# Altium integrated library National Semiconductor Audio.IntLib: 683 symbols (part 15 of 18)
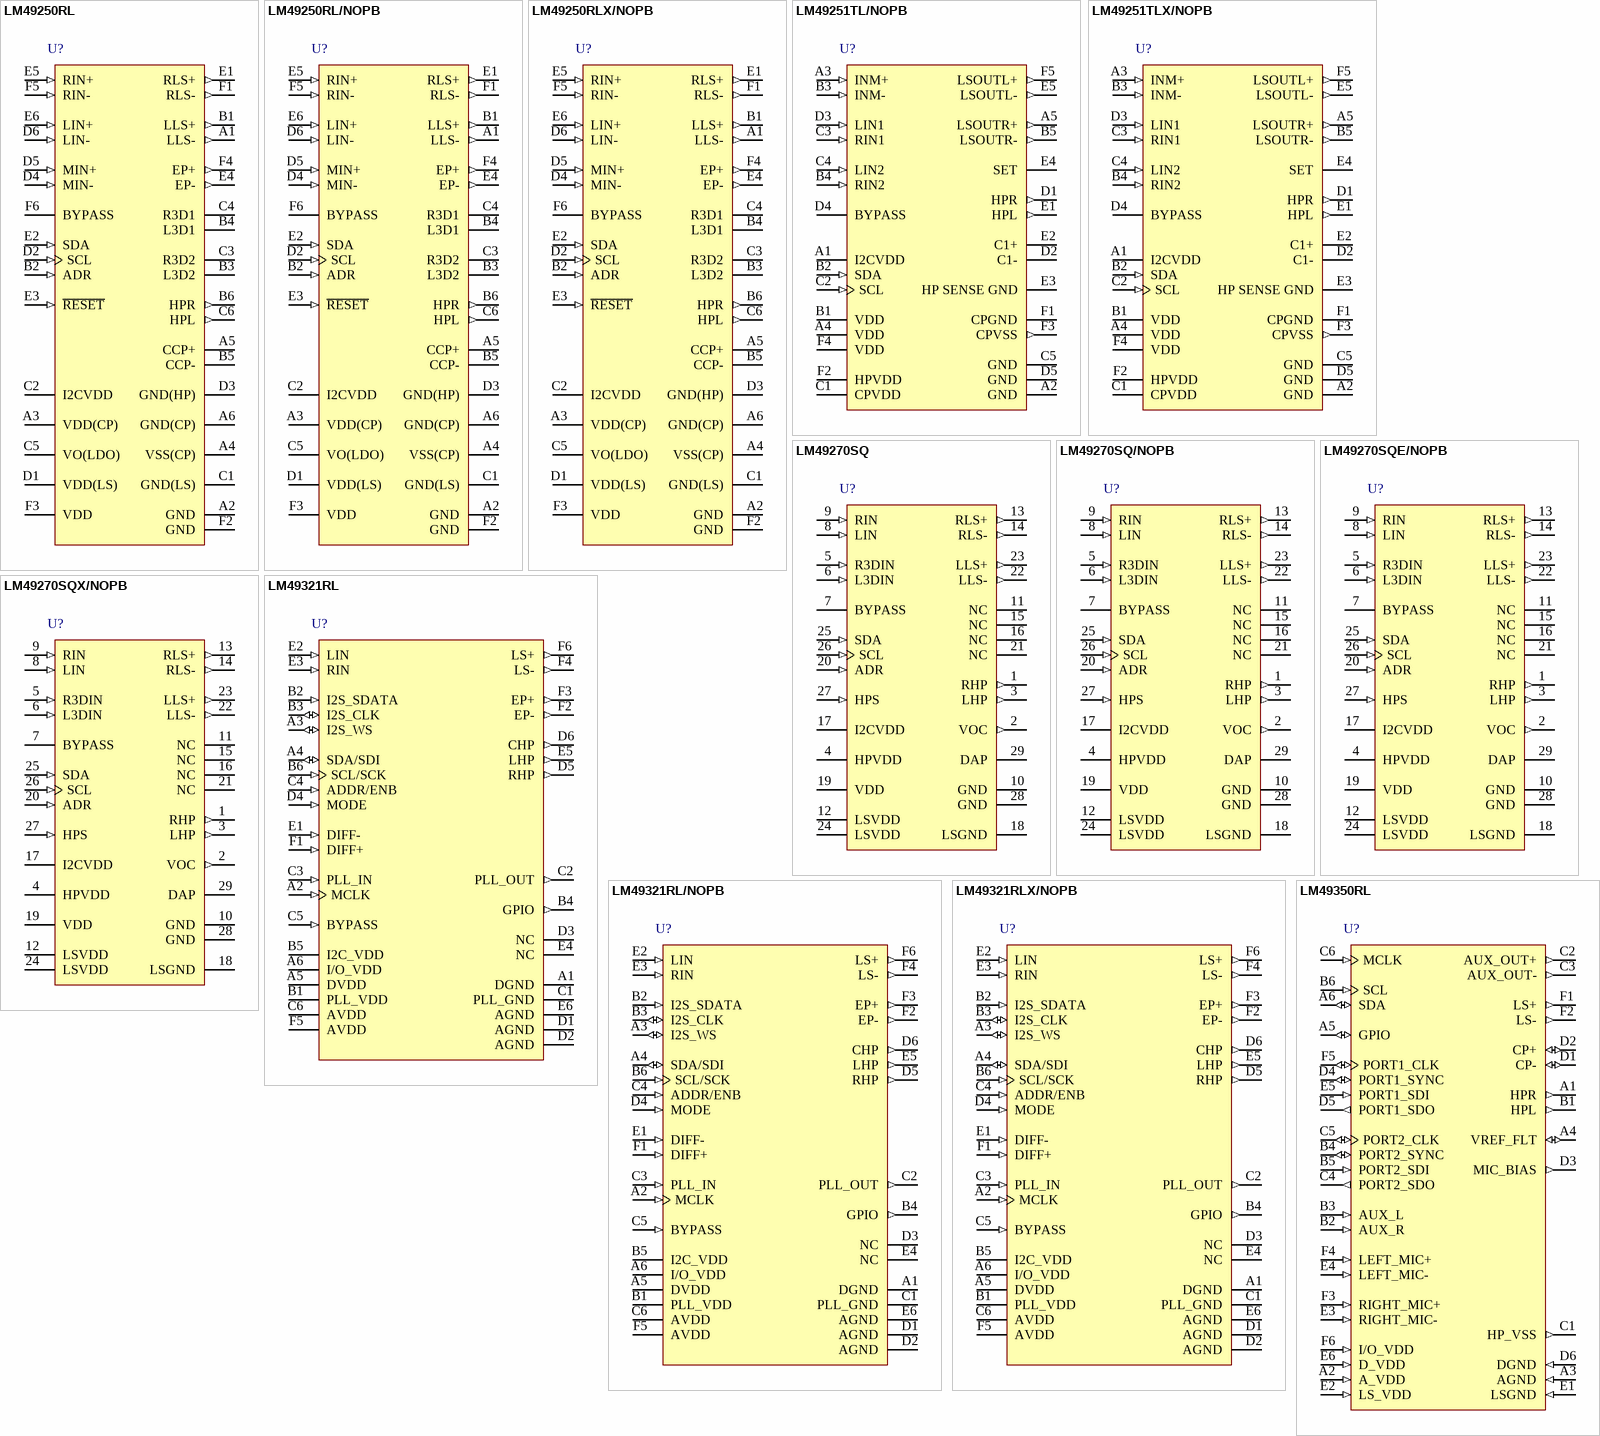
[diagram p40: symbols LM49250RL to LM49350RL]

## LM49251TL/NOPB
designator U?
Stereo Audio Subsystem with Class G Headphone Amplifier and Class D Speaker  Amplifier with Speaker Protection, 30-pin Micro SMD; PartNumber: LM49251TL/NOPB; Manufacturer: National Semiconductor; PackageTopMarking: XYTT*I GN9; PowerWise: Y; CompType: Audio IC; DatasheetVersion: Feb-2011; PackageVersion: revC, Dec-2003; PackageReference: TLA30B1A; PackageDescription: Thin Micro SMD, 30 Bump (Large), 0.5mm Pitch; RoHS: Y; PinCount: 30; High-Reliability: Y; Code_JEDEC: MO-211-DJ; ComponentLink1Description: Manufacturer URL; ComponentLink1URL: http://www.national.com/; ComponentLink2Description: LM49251 Datasheet; ComponentLink2URL: http://www.national.com/ds/LM/LM49251.pdf; ComponentLink3Description: LM49251 Web Page; ComponentLink3URL: http://www.national.com/pf/LM/LM49251.html; ComponentLink4Description: TLA30B1A Package Page; ComponentLink4URL: http://www.national.com/packaging/folders/tla30b1a.html
footprint TLA30B1A (Micro SMD, 30-Leads, Body 2.97x2.52mm, Pitch 0.5mm, NSC Recommended)
pins: A1 I2CVDD (power) "I2C Power Supply", A2 GND (power) "Ground", A3 INM+ (in) "Mono Channel Non-Inverting Input", A4 VDD (power) "Loudspeaker Power Supply", A5 LSOUTR+ (out) "Right Loudspeaker Non-Inverting Output", B1 VDD (power) "Loudspeaker Power Supply", B2 SDA (in) "I2C Serial Data Input", B3 INM- (in) "Mono Channel Inverting Input", B4 RIN2 (in) "Right Channel Input 2", B5 LSOUTR- (out) "Right Loudspeaker Inverting Output", C1 CPVDD (power) "Charge Pump Supply (internally generated)", C2 SCL (in) "I2C Serial Clock Input", C3 RIN1 (in) "Right Channel Input 1", C4 LIN2 (in) "Left Channel Input 2", C5 GND (power) "Ground", D1 HPR (out) "Right Channel Headphone Output", D2 C1- "Charge Pump Flying Capacitor Negative Terminal", D3 LIN1 (in) "Left Channel Input 1", D4 BYPASS "Mid-Rail Bias Bypass Node", D5 GND (power) "Ground", E1 HPL (out) "Left Channel Headphone Output", E2 C1+ "Charge Pump Flying Capacitor Positive Terminal", E3 HP SENSE GND (power) "Headphone Ground Sense", E4 SET "ALC Timing Set", E5 LSOUTL- (out) "Left Loudspeaker Inverting Output", F1 CPGND (power) "Charge Pump Ground", F2 HPVDD (power) "Headphone Power Supply", F3 CPVSS (out) "Charge Pump Output", F4 VDD (power) "Loudspeaker Power Supply", F5 LSOUTL+ (out) "Left Loudspeaker Non-Inverting Output"

## LM49251TLX/NOPB
designator U?
Stereo Audio Subsystem with Class G Headphone Amplifier and Class D Speaker  Amplifier with Speaker Protection, 30-pin Micro SMD; PartNumber: LM49251TLX/NOPB; Manufacturer: National Semiconductor; PackageTopMarking: XYTT*I GN9; PowerWise: Y; CompType: Audio IC; DatasheetVersion: Feb-2011; PackageVersion: revC, Dec-2003; PackageReference: TLA30B1A; PackageDescription: Thin Micro SMD, 30 Bump (Large), 0.5mm Pitch; RoHS: Y; PinCount: 30; High-Reliability: Y; Code_JEDEC: MO-211-DJ; ComponentLink1Description: Manufacturer URL; ComponentLink1URL: http://www.national.com/; ComponentLink2Description: LM49251 Datasheet; ComponentLink2URL: http://www.national.com/ds/LM/LM49251.pdf; ComponentLink3Description: LM49251 Web Page; ComponentLink3URL: http://www.national.com/pf/LM/LM49251.html; ComponentLink4Description: TLA30B1A Package Page; ComponentLink4URL: http://www.national.com/packaging/folders/tla30b1a.html
footprint TLA30B1A (Micro SMD, 30-Leads, Body 2.97x2.52mm, Pitch 0.5mm, NSC Recommended)
pins: A1 I2CVDD (power) "I2C Power Supply", A2 GND (power) "Ground", A3 INM+ (in) "Mono Channel Non-Inverting Input", A4 VDD (power) "Loudspeaker Power Supply", A5 LSOUTR+ (out) "Right Loudspeaker Non-Inverting Output", B1 VDD (power) "Loudspeaker Power Supply", B2 SDA (in) "I2C Serial Data Input", B3 INM- (in) "Mono Channel Inverting Input", B4 RIN2 (in) "Right Channel Input 2", B5 LSOUTR- (out) "Right Loudspeaker Inverting Output", C1 CPVDD (power) "Charge Pump Supply (internally generated)", C2 SCL (in) "I2C Serial Clock Input", C3 RIN1 (in) "Right Channel Input 1", C4 LIN2 (in) "Left Channel Input 2", C5 GND (power) "Ground", D1 HPR (out) "Right Channel Headphone Output", D2 C1- "Charge Pump Flying Capacitor Negative Terminal", D3 LIN1 (in) "Left Channel Input 1", D4 BYPASS "Mid-Rail Bias Bypass Node", D5 GND (power) "Ground", E1 HPL (out) "Left Channel Headphone Output", E2 C1+ "Charge Pump Flying Capacitor Positive Terminal", E3 HP SENSE GND (power) "Headphone Ground Sense", E4 SET "ALC Timing Set", E5 LSOUTL- (out) "Left Loudspeaker Inverting Output", F1 CPGND (power) "Charge Pump Ground", F2 HPVDD (power) "Headphone Power Supply", F3 CPVSS (out) "Charge Pump Output", F4 VDD (power) "Loudspeaker Power Supply", F5 LSOUTL+ (out) "Left Loudspeaker Non-Inverting Output"

## LM49270SQ
designator U?
Filterless 2.2W Class D Audio Subsystem with OCL Headphone Amplifier, 3D Enhancement, and Headphone Sense, 28-pin LLP; PartNumber: LM49270SQ; Manufacturer: National Semiconductor; PackageTopMarking: NS*UZXYTT*49270SQ; PowerWise: N; CompType: Audio IC; High-Reliability: Y; DatasheetVersion: Dec-2006; PackageVersion: revB, Aug-2003; PackageReference: SQA28A; PackageDescription: LLP, Plastic, Quad, 5 x 5 x 0.8mm Body, 28 Lead, 0.5mm Pitch, No Pullback; RoHS: Y; PinCount: 28; Code_JEDEC: MO-220-WHHD-3; ComponentLink1Description: Manufacturer URL; ComponentLink1URL: http://www.national.com/; ComponentLink2Description: LM49270 Datasheet; ComponentLink2URL: http://www.national.com/ds/LM/LM49270.pdf; ComponentLink3Description: LM49270 Web Page; ComponentLink3URL: http://www.national.com/pf/LM/LM49270.html; ComponentLink4Description: SQA28A Package Page; ComponentLink4URL: http://www.national.com/packaging/folders/sqa28a.html
footprint SQA28A (QFN, 29-Leads, Body 5x5mm, Pitch 0.5mm, NSC Recommended)
pins: 1 RHP (out), 2 VOC (out), 3 LHP (out), 4 HPVDD (power), 5 R3DIN (in), 6 L3DIN (in), 7 BYPASS, 8 LIN (in), 9 RIN (in), 10 GND (power), 11 NC, 12 LSVDD (power), 13 RLS+ (out), 14 RLS- (out), 15 NC, 16 NC, 17 I2CVDD (power), 18 LSGND (power), 19 VDD (power), 20 ADR (in), 21 NC, 22 LLS- (out), 23 LLS+ (out), 24 LSVDD (power), 25 SDA (in), 26 SCL (in), 27 HPS (in), 28 GND (power), 29 DAP (power)

## LM49270SQ/NOPB
designator U?
Filterless 2.2W Class D Audio Subsystem with OCL Headphone Amplifier, 3D Enhancement, and Headphone Sense, 28-pin LLP, Pb-Free; PartNumber: LM49270SQ/NOPB; Manufacturer: National Semiconductor; PackageTopMarking: NS*UZXYTT*49270SQ; PowerWise: N; CompType: Audio IC; High-Reliability: Y; DatasheetVersion: Dec-2006; PackageVersion: revB, Aug-2003; PackageReference: SQA28A; PackageDescription: LLP, Plastic, Quad, 5 x 5 x 0.8mm Body, 28 Lead, 0.5mm Pitch, No Pullback; RoHS: Y; PinCount: 28; Code_JEDEC: MO-220-WHHD-3; ComponentLink1Description: Manufacturer URL; ComponentLink1URL: http://www.national.com/; ComponentLink2Description: LM49270 Datasheet; ComponentLink2URL: http://www.national.com/ds/LM/LM49270.pdf; ComponentLink3Description: LM49270 Web Page; ComponentLink3URL: http://www.national.com/pf/LM/LM49270.html; ComponentLink4Description: SQA28A Package Page; ComponentLink4URL: http://www.national.com/packaging/folders/sqa28a.html
footprint SQA28A (QFN, 29-Leads, Body 5x5mm, Pitch 0.5mm, NSC Recommended)
pins: 1 RHP (out), 2 VOC (out), 3 LHP (out), 4 HPVDD (power), 5 R3DIN (in), 6 L3DIN (in), 7 BYPASS, 8 LIN (in), 9 RIN (in), 10 GND (power), 11 NC, 12 LSVDD (power), 13 RLS+ (out), 14 RLS- (out), 15 NC, 16 NC, 17 I2CVDD (power), 18 LSGND (power), 19 VDD (power), 20 ADR (in), 21 NC, 22 LLS- (out), 23 LLS+ (out), 24 LSVDD (power), 25 SDA (in), 26 SCL (in), 27 HPS (in), 28 GND (power), 29 DAP (power)

## LM49270SQE/NOPB
designator U?
Filterless 2.2W Class D Audio Subsystem with OCL Headphone Amplifier, 3D Enhancement, and Headphone Sense, 28-pin LLP, Pb-Free; PartNumber: LM49270SQE/NOPB; Manufacturer: National Semiconductor; PackageTopMarking: NS*UZXYTT*49270SQ; PowerWise: N; CompType: Audio IC; High-Reliability: Y; DatasheetVersion: Dec-2006; PackageVersion: revB, Aug-2003; PackageReference: SQA28A; PackageDescription: LLP, Plastic, Quad, 5 x 5 x 0.8mm Body, 28 Lead, 0.5mm Pitch, No Pullback; RoHS: Y; PinCount: 28; Code_JEDEC: MO-220-WHHD-3; ComponentLink1Description: Manufacturer URL; ComponentLink1URL: http://www.national.com/; ComponentLink2Description: LM49270 Datasheet; ComponentLink2URL: http://www.national.com/ds/LM/LM49270.pdf; ComponentLink3Description: LM49270 Web Page; ComponentLink3URL: http://www.national.com/pf/LM/LM49270.html; ComponentLink4Description: SQA28A Package Page; ComponentLink4URL: http://www.national.com/packaging/folders/sqa28a.html
footprint SQA28A (QFN, 29-Leads, Body 5x5mm, Pitch 0.5mm, NSC Recommended)
pins: 1 RHP (out), 2 VOC (out), 3 LHP (out), 4 HPVDD (power), 5 R3DIN (in), 6 L3DIN (in), 7 BYPASS, 8 LIN (in), 9 RIN (in), 10 GND (power), 11 NC, 12 LSVDD (power), 13 RLS+ (out), 14 RLS- (out), 15 NC, 16 NC, 17 I2CVDD (power), 18 LSGND (power), 19 VDD (power), 20 ADR (in), 21 NC, 22 LLS- (out), 23 LLS+ (out), 24 LSVDD (power), 25 SDA (in), 26 SCL (in), 27 HPS (in), 28 GND (power), 29 DAP (power)

## LM49270SQX/NOPB
designator U?
Filterless 2.2W Class D Audio Subsystem with OCL Headphone Amplifier, 3D Enhancement, and Headphone Sense, 28-pin LLP, Pb-Free; PartNumber: LM49270SQX/NOPB; Manufacturer: National Semiconductor; PackageTopMarking: NS*UZXYTT*49270SQ; PowerWise: N; CompType: Audio IC; High-Reliability: Y; DatasheetVersion: Dec-2006; PackageVersion: revB, Aug-2003; PackageReference: SQA28A; PackageDescription: LLP, Plastic, Quad, 5 x 5 x 0.8mm Body, 28 Lead, 0.5mm Pitch, No Pullback; RoHS: Y; PinCount: 28; Code_JEDEC: MO-220-WHHD-3; ComponentLink1Description: Manufacturer URL; ComponentLink1URL: http://www.national.com/; ComponentLink2Description: LM49270 Datasheet; ComponentLink2URL: http://www.national.com/ds/LM/LM49270.pdf; ComponentLink3Description: LM49270 Web Page; ComponentLink3URL: http://www.national.com/pf/LM/LM49270.html; ComponentLink4Description: SQA28A Package Page; ComponentLink4URL: http://www.national.com/packaging/folders/sqa28a.html
footprint SQA28A (QFN, 29-Leads, Body 5x5mm, Pitch 0.5mm, NSC Recommended)
pins: 1 RHP (out), 2 VOC (out), 3 LHP (out), 4 HPVDD (power), 5 R3DIN (in), 6 L3DIN (in), 7 BYPASS, 8 LIN (in), 9 RIN (in), 10 GND (power), 11 NC, 12 LSVDD (power), 13 RLS+ (out), 14 RLS- (out), 15 NC, 16 NC, 17 I2CVDD (power), 18 LSGND (power), 19 VDD (power), 20 ADR (in), 21 NC, 22 LLS- (out), 23 LLS+ (out), 24 LSVDD (power), 25 SDA (in), 26 SCL (in), 27 HPS (in), 28 GND (power), 29 DAP (power)

## LM49321RL
designator U?
Audio Sub-System with Stereo DAC, Mono Class AB Loudspeaker Amplifier, OCL/SE Stereo Headphone Output and RF Suppression, 36-pin Micro SMDXT; PartNumber: LM49321RL; Manufacturer: National Semiconductor; PackageTopMarking: XYTT*I GK9; PowerWise: N; CompType: Audio IC; High-Reliability: Y; DatasheetVersion: Aug-2009; PackageVersion: revA, 2007; PackageReference: RLA36LVA; PackageDescription: Micro SMDxt, 36 Bump (Large), 0.5mm Pitch; RoHS: Y; PinCount: 36; ComponentLink1Description: Manufacturer URL; ComponentLink1URL: http://www.national.com/; ComponentLink2Description: LM49321 Datasheet; ComponentLink2URL: http://www.national.com/ds/LM/LM49321.pdf; ComponentLink3Description: LM49321 Web Page; ComponentLink3URL: http://www.national.com/pf/LM/LM49321.html
footprint RLA36LVA (Micro SMD, 36-Leads, Body 3.51x3.26mm, Pitch 0.5mm, NSC Recommended)
pins: A1 DGND (power), A2 MCLK (in), A3 I2S_WS (io), A4 SDA/SDI (io), A5 DVDD (power), A6 I/O_VDD (power), B1 PLL_VDD (power), B2 I2S_SDATA (in), B3 I2S_CLK (io), B4 GPIO (out), B5 I2C_VDD (power), B6 SCL/SCK (in), C1 PLL_GND (power), C2 PLL_OUT (out), C3 PLL_IN (in), C4 ADDR/ENB (in), C5 BYPASS (in), C6 AVDD (power), D1 AGND (power), D2 AGND (power), D3 NC, D4 MODE (in), D5 RHP (out), D6 CHP (out), E1 DIFF- (in), E2 LIN (in), E3 RIN (in), E4 NC, E5 LHP (out), E6 AGND (power), F1 DIFF+ (in), F2 EP- (out), F3 EP+ (out), F4 LS- (out), F5 AVDD (power), F6 LS+ (out)

## LM49321RL/NOPB
designator U?
Audio Sub-System with Stereo DAC, Mono Class AB Loudspeaker Amplifier, OCL/SE Stereo Headphone Output and RF Suppression, 36-pin Micro SMDXT, Pb-Free; PartNumber: LM49321RL/NOPB; Manufacturer: National Semiconductor; PackageTopMarking: XYTT*I GK9; PowerWise: N; CompType: Audio IC; High-Reliability: Y; DatasheetVersion: Aug-2009; PackageVersion: revA, 2007; PackageReference: RLA36LVA; PackageDescription: Micro SMDxt, 36 Bump (Large), 0.5mm Pitch; RoHS: Y; PinCount: 36; ComponentLink1Description: Manufacturer URL; ComponentLink1URL: http://www.national.com/; ComponentLink2Description: LM49321 Datasheet; ComponentLink2URL: http://www.national.com/ds/LM/LM49321.pdf; ComponentLink3Description: LM49321 Web Page; ComponentLink3URL: http://www.national.com/pf/LM/LM49321.html; ComponentLink4Description: RLA36LVA Package Page; ComponentLink4URL: http://www.national.com/packaging/folders/rla36lva.html
footprint RLA36LVA (Micro SMD, 36-Leads, Body 3.51x3.26mm, Pitch 0.5mm, NSC Recommended)
pins: A1 DGND (power), A2 MCLK (in), A3 I2S_WS (io), A4 SDA/SDI (io), A5 DVDD (power), A6 I/O_VDD (power), B1 PLL_VDD (power), B2 I2S_SDATA (in), B3 I2S_CLK (io), B4 GPIO (out), B5 I2C_VDD (power), B6 SCL/SCK (in), C1 PLL_GND (power), C2 PLL_OUT (out), C3 PLL_IN (in), C4 ADDR/ENB (in), C5 BYPASS (in), C6 AVDD (power), D1 AGND (power), D2 AGND (power), D3 NC, D4 MODE (in), D5 RHP (out), D6 CHP (out), E1 DIFF- (in), E2 LIN (in), E3 RIN (in), E4 NC, E5 LHP (out), E6 AGND (power), F1 DIFF+ (in), F2 EP- (out), F3 EP+ (out), F4 LS- (out), F5 AVDD (power), F6 LS+ (out)

## LM49321RLX/NOPB
designator U?
Audio Sub-System with Stereo DAC, Mono Class AB Loudspeaker Amplifier, OCL/SE Stereo Headphone Output and RF Suppression, 36-pin Micro SMDXT, Pb-Free; PartNumber: LM49321RLX/NOPB; Manufacturer: National Semiconductor; PackageTopMarking: XYTT*I GK9; PowerWise: N; CompType: Audio IC; High-Reliability: Y; DatasheetVersion: Aug-2009; PackageVersion: revA, 2007; PackageReference: RLA36LVA; PackageDescription: Micro SMDxt, 36 Bump (Large), 0.5mm Pitch; RoHS: Y; PinCount: 36; ComponentLink1Description: Manufacturer URL; ComponentLink1URL: http://www.national.com/; ComponentLink2Description: LM49321 Datasheet; ComponentLink2URL: http://www.national.com/ds/LM/LM49321.pdf; ComponentLink3Description: LM49321 Web Page; ComponentLink3URL: http://www.national.com/pf/LM/LM49321.html; ComponentLink4Description: RLA36LVA Package Page; ComponentLink4URL: http://www.national.com/packaging/folders/rla36lva.html
footprint RLA36LVA (Micro SMD, 36-Leads, Body 3.51x3.26mm, Pitch 0.5mm, NSC Recommended)
pins: A1 DGND (power), A2 MCLK (in), A3 I2S_WS (io), A4 SDA/SDI (io), A5 DVDD (power), A6 I/O_VDD (power), B1 PLL_VDD (power), B2 I2S_SDATA (in), B3 I2S_CLK (io), B4 GPIO (out), B5 I2C_VDD (power), B6 SCL/SCK (in), C1 PLL_GND (power), C2 PLL_OUT (out), C3 PLL_IN (in), C4 ADDR/ENB (in), C5 BYPASS (in), C6 AVDD (power), D1 AGND (power), D2 AGND (power), D3 NC, D4 MODE (in), D5 RHP (out), D6 CHP (out), E1 DIFF- (in), E2 LIN (in), E3 RIN (in), E4 NC, E5 LHP (out), E6 AGND (power), F1 DIFF+ (in), F2 EP- (out), F3 EP+ (out), F4 LS- (out), F5 AVDD (power), F6 LS+ (out)

## LM49350RL
designator U?
High Performance Audio Codec Sub-System with a Ground-Referenced Stereo Headphone Amplifier & Ultra Low EMI Class D Loudspeaker Amplifier with Dual I2S/PCM Digital Audio Interfaces, 36-pin Micro SMDXT; PartNumber: LM49350RL; Manufacturer: National Semiconductor; PackageTopMarking: XYTT*I GJ8; PowerWise: N; CompType: Audio IC; High-Reliability: Y; DatasheetVersion: May-2009; PackageVersion: revA, 2008; PackageReference: RLA36TTA; PackageDescription: Micro SMDxt, 36 Bump (Large), 0.5mm Pitch; RoHS: Y; PinCount: 36; ComponentLink1Description: Manufacturer URL; ComponentLink1URL: http://www.national.com/; ComponentLink2Description: LM49350 Datasheet; ComponentLink2URL: http://www.national.com/ds/LM/LM49350.pdf; ComponentLink3Description: LM49350 Web Page; ComponentLink3URL: http://www.national.com/pf/LM/LM49350.html
footprint RLA36TTA (Micro SMD, 36-Leads, Body 3.46x3.46mm, Pitch 0.5mm, NSC Recommended)
pins: A1 HPR (out), A2 A_VDD (in), A3 AGND (in), A4 VREF_FLT (io), A5 GPIO (io), A6 SDA (io), B1 HPL (out), B2 AUX_R (in), B3 AUX_L (in), B4 PORT2_SYNC (io), B5 PORT2_SDI (in), B6 SCL (in), C1 HP_VSS (out), C2 AUX_OUT+ (out), C3 AUX_OUT- (out), C4 PORT2_SDO (out), C5 PORT2_CLK (io), C6 MCLK (in), D1 CP- (io), D2 CP+ (io), D3 MIC_BIAS (out), D4 PORT1_SYNC (io), D5 PORT1_SDO (out), D6 DGND (in), E1 LSGND (in), E2 LS_VDD (in), E3 RIGHT_MIC- (in), E4 LEFT_MIC- (in), E5 PORT1_SDI (in), E6 D_VDD (in), F1 LS+ (out), F2 LS- (out), F3 RIGHT_MIC+ (in), F4 LEFT_MIC+ (in), F5 PORT1_CLK (io), F6 I/O_VDD (in)

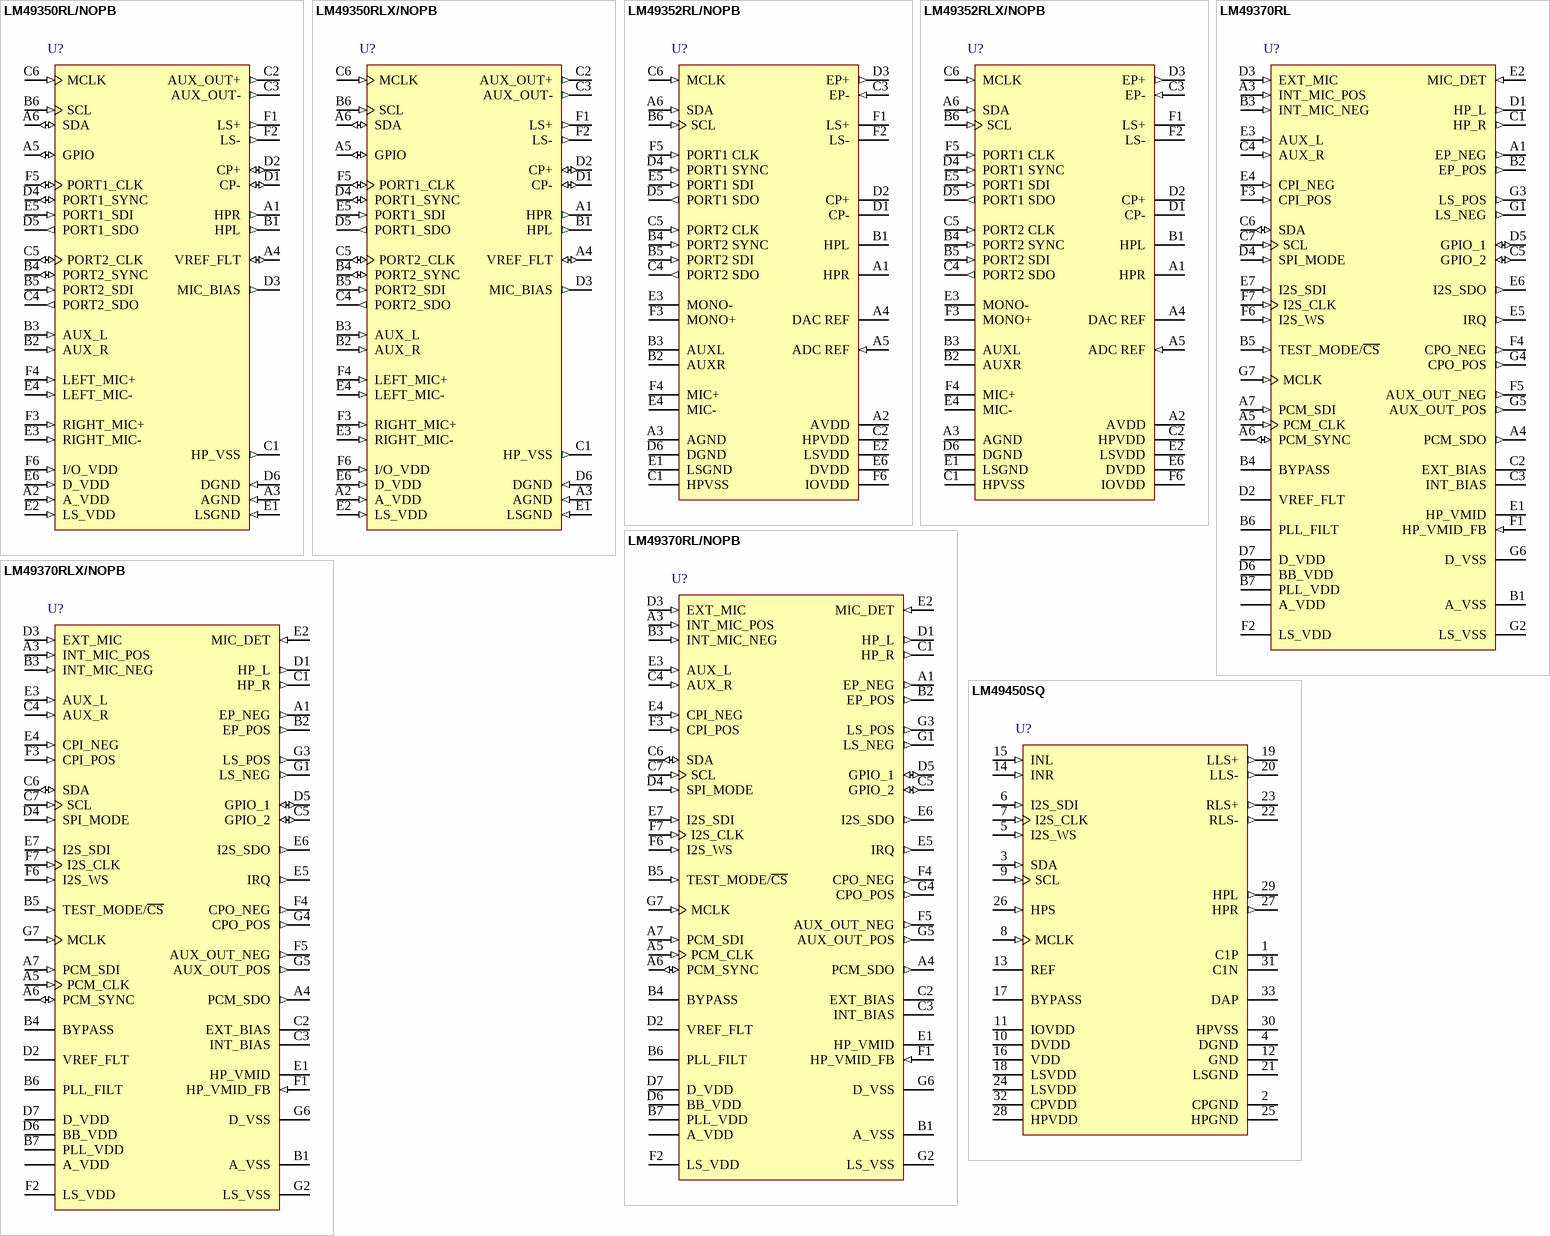
[diagram p22: symbols LM49350RL/NOPB to LM49450SQ]

## LM49350RL/NOPB
designator U?
High Performance Audio Codec Sub-System with a Ground-Referenced Stereo Headphone Amplifier & Ultra Low EMI Class D Loudspeaker Amplifier with Dual I2S/PCM Digital Audio Interfaces, 36-pin Micro SMDXT, Pb-Free; PartNumber: LM49350RL/NOPB; Manufacturer: National Semiconductor; PackageTopMarking: XYTT*I GJ8; PowerWise: N; CompType: Audio IC; High-Reliability: Y; DatasheetVersion: May-2009; PackageVersion: revA, 2008; PackageReference: RLA36TTA; PackageDescription: Micro SMDxt, 36 Bump (Large), 0.5mm Pitch; RoHS: Y; PinCount: 36; ComponentLink1Description: Manufacturer URL; ComponentLink1URL: http://www.national.com/; ComponentLink2Description: LM49350 Datasheet; ComponentLink2URL: http://www.national.com/ds/LM/LM49350.pdf; ComponentLink3Description: LM49350 Web Page; ComponentLink3URL: http://www.national.com/pf/LM/LM49350.html; ComponentLink4Description: RLA36TTA Package Page; ComponentLink4URL: http://www.national.com/packaging/folders/rla36tta.html
footprint RLA36TTA (Micro SMD, 36-Leads, Body 3.46x3.46mm, Pitch 0.5mm, NSC Recommended)
pins: A1 HPR (out), A2 A_VDD (in), A3 AGND (in), A4 VREF_FLT (io), A5 GPIO (io), A6 SDA (io), B1 HPL (out), B2 AUX_R (in), B3 AUX_L (in), B4 PORT2_SYNC (io), B5 PORT2_SDI (in), B6 SCL (in), C1 HP_VSS (out), C2 AUX_OUT+ (out), C3 AUX_OUT- (out), C4 PORT2_SDO (out), C5 PORT2_CLK (io), C6 MCLK (in), D1 CP- (io), D2 CP+ (io), D3 MIC_BIAS (out), D4 PORT1_SYNC (io), D5 PORT1_SDO (out), D6 DGND (in), E1 LSGND (in), E2 LS_VDD (in), E3 RIGHT_MIC- (in), E4 LEFT_MIC- (in), E5 PORT1_SDI (in), E6 D_VDD (in), F1 LS+ (out), F2 LS- (out), F3 RIGHT_MIC+ (in), F4 LEFT_MIC+ (in), F5 PORT1_CLK (io), F6 I/O_VDD (in)

## LM49350RLX/NOPB
designator U?
High Performance Audio Codec Sub-System with a Ground-Referenced Stereo Headphone Amplifier & Ultra Low EMI Class D Loudspeaker Amplifier with Dual I2S/PCM Digital Audio Interfaces, 36-pin Micro SMDXT, Pb-Free; PartNumber: LM49350RLX/NOPB; Manufacturer: National Semiconductor; PackageTopMarking: XYTT*I GJ8; PowerWise: N; CompType: Audio IC; High-Reliability: Y; DatasheetVersion: May-2009; PackageVersion: revA, 2008; PackageReference: RLA36TTA; PackageDescription: Micro SMDxt, 36 Bump (Large), 0.5mm Pitch; RoHS: Y; PinCount: 36; ComponentLink1Description: Manufacturer URL; ComponentLink1URL: http://www.national.com/; ComponentLink2Description: LM49350 Datasheet; ComponentLink2URL: http://www.national.com/ds/LM/LM49350.pdf; ComponentLink3Description: LM49350 Web Page; ComponentLink3URL: http://www.national.com/pf/LM/LM49350.html; ComponentLink4Description: RLA36TTA Package Page; ComponentLink4URL: http://www.national.com/packaging/folders/rla36tta.html
footprint RLA36TTA (Micro SMD, 36-Leads, Body 3.46x3.46mm, Pitch 0.5mm, NSC Recommended)
pins: A1 HPR (out), A2 A_VDD (in), A3 AGND (in), A4 VREF_FLT (io), A5 GPIO (io), A6 SDA (io), B1 HPL (out), B2 AUX_R (in), B3 AUX_L (in), B4 PORT2_SYNC (io), B5 PORT2_SDI (in), B6 SCL (in), C1 HP_VSS (out), C2 AUX_OUT+ (out), C3 AUX_OUT- (out), C4 PORT2_SDO (out), C5 PORT2_CLK (io), C6 MCLK (in), D1 CP- (io), D2 CP+ (io), D3 MIC_BIAS (out), D4 PORT1_SYNC (io), D5 PORT1_SDO (out), D6 DGND (in), E1 LSGND (in), E2 LS_VDD (in), E3 RIGHT_MIC- (in), E4 LEFT_MIC- (in), E5 PORT1_SDI (in), E6 D_VDD (in), F1 LS+ (out), F2 LS- (out), F3 RIGHT_MIC+ (in), F4 LEFT_MIC+ (in), F5 PORT1_CLK (io), F6 I/O_VDD (in)

## LM49352RL/NOPB
designator U?
Mono Class D Audio Codec Subsytem with Ground Referenced Headphone Amplifiers, Earpiece Driver, and Audio DSP, 36 pin MICRO SMDXT; PartNumber: LM49352RL/NOPB; Manufacturer: National Semiconductor; PackageTopMarking: XYTT*I GL5; PowerWise: Y; CompType: Audio IC; DatasheetVersion: Jun-2010; PackageVersion: revA, Jun-2010; PackageReference: RLA36MMA; PackageDescription: Micro SMDxt, 36 Bump (Large), 0.5mm Pitch; RoHS: Y; PinCount: 36; High-Reliability: Y; ComponentLink1Description: Manufacturer URL; ComponentLink1URL: http://www.national.com/; ComponentLink2Description: LM49352 Datasheet; ComponentLink2URL: http://www.national.com/ds/LM/LM49352.pdf; ComponentLink3Description: LM49352 Web Page; ComponentLink3URL: http://www.national.com/pf/LM/LM49352.html; ComponentLink4Description: RLA36MMA Package Page; ComponentLink4URL: http://www.national.com/packaging/folders/rla36mma.html
footprint RLA36MMA (Micro SMD, 36-Leads, Body 3.28x3.28mm, Pitch 0.5mm, NSC Recommended)
pins: A1 HPR, A2 AVDD (power), A3 AGND (power), A4 DAC REF (power), A5 ADC REF (in), A6 SDA (in), B1 HPL, B2 AUXR, B3 AUXL, B4 PORT2 SYNC (in), B5 PORT2 SDI (in), B6 SCL (in), C1 HPVSS (power), C2 HPVDD (power), C3 EP- (in), C4 PORT2 SDO (out), C5 PORT2 CLK (in), C6 MCLK (in), D1 CP-, D2 CP+, D3 EP+ (out), D4 PORT1 SYNC (in), D5 PORT1 SDO (out), D6 DGND (power), E1 LSGND (power), E2 LSVDD (power), E3 MONO-, E4 MIC-, E5 PORT1 SDI (in), E6 DVDD (power), F1 LS+ (power), F2 LS- (power), F3 MONO+, F4 MIC+, F5 PORT1 CLK (in), F6 IOVDD (power)

## LM49352RLX/NOPB
designator U?
Mono Class D Audio Codec Subsytem with Ground Referenced Headphone Amplifiers, Earpiece Driver, and Audio DSP, 36 pin MICRO SMDXT; PartNumber: LM49352RLX/NOPB; Manufacturer: National Semiconductor; PackageTopMarking: XYTT*I GL5; PowerWise: Y; CompType: Audio IC; DatasheetVersion: Jun-2010; PackageVersion: revA, Jun-2010; PackageReference: RLA36MMA; PackageDescription: Micro SMDxt, 36 Bump (Large), 0.5mm Pitch; RoHS: Y; PinCount: 36; High-Reliability: Y; ComponentLink1Description: Manufacturer URL; ComponentLink1URL: http://www.national.com/; ComponentLink2Description: LM49352 Datasheet; ComponentLink2URL: http://www.national.com/ds/LM/LM49352.pdf; ComponentLink3Description: LM49352 Web Page; ComponentLink3URL: http://www.national.com/pf/LM/LM49352.html; ComponentLink4Description: RLA36MMA Package Page; ComponentLink4URL: http://www.national.com/packaging/folders/rla36mma.html
footprint RLA36MMA (Micro SMD, 36-Leads, Body 3.28x3.28mm, Pitch 0.5mm, NSC Recommended)
pins: A1 HPR, A2 AVDD (power), A3 AGND (power), A4 DAC REF (power), A5 ADC REF (in), A6 SDA (in), B1 HPL, B2 AUXR, B3 AUXL, B4 PORT2 SYNC (in), B5 PORT2 SDI (in), B6 SCL (in), C1 HPVSS (power), C2 HPVDD (power), C3 EP- (in), C4 PORT2 SDO (out), C5 PORT2 CLK (in), C6 MCLK (in), D1 CP-, D2 CP+, D3 EP+ (out), D4 PORT1 SYNC (in), D5 PORT1 SDO (out), D6 DGND (power), E1 LSGND (power), E2 LSVDD (power), E3 MONO-, E4 MIC-, E5 PORT1 SDI (in), E6 DVDD (power), F1 LS+ (power), F2 LS- (power), F3 MONO+, F4 MIC+, F5 PORT1 CLK (in), F6 IOVDD (power)

## LM49370RL
designator U?
Boomer Audio Power Amplifier Series Audio Sub-System with an Ultra Low EMI, Spread Spectrum, Class D Loudspeaker Amplifier, a Dual-Mode Stereo Headphone Amplifier, and a Dedicated Interface for Bluetooth Transceivers, 49-pin Micro SMDXT; PartNumber: LM49370RL; Manufacturer: National Semiconductor; PackageTopMarking: XYTT*I GI3; PowerWise: Y; CompType: Audio IC; DatasheetVersion: Feb-2008; PackageVersion: revB, Dec-2005; PackageReference: RLA49UUA; PackageDescription: Micro SMDxt, 49 Bump (Large), 0.5mm Pitch; RoHS: Y; PinCount: 49; High-Reliability: Y; ComponentLink1Description: Manufacturer URL; ComponentLink1URL: http://www.national.com/; ComponentLink2Description: LM49370 Datasheet; ComponentLink2URL: http://www.national.com/ds/LM/LM49370.pdf; ComponentLink3Description: LM49370 Web Page; ComponentLink3URL: http://www.national.com/pf/LM/LM49370.html; ComponentLink4Description: RLA49UUA Package Page; ComponentLink4URL: http://www.national.com/packaging/folders/rla49uua.html
footprint RLA49UUA (Micro SMD, 49-Leads, Body 3.93x3.93mm, Pitch 0.5mm, NSC Recommended)
pins: A1 EP_NEG (out), A2 A_VDD (power), A3 INT_MIC_POS (in), A4 PCM_SDO (out), A5 PCM_CLK (in), A6 PCM_SYNC (io), A7 PCM_SDI (in), B1 A_VSS (power), B2 EP_POS (out), B3 INT_MIC_NEG (in), B4 BYPASS, B5 TEST_MODE/~{CS} (in), B6 PLL_FILT, B7 PLL_VDD (power), C1 HP_R (out), C2 EXT_BIAS (power), C3 INT_BIAS (power), C4 AUX_R (in), C5 GPIO_2 (io), C6 SDA (io), C7 SCL (in), D1 HP_L (out), D2 VREF_FLT, D3 EXT_MIC (in), D4 SPI_MODE (in), D5 GPIO_1 (io), D6 BB_VDD (power), D7 D_VDD (power), E1 HP_VMID (power), E2 MIC_DET (in), E3 AUX_L (in), E4 CPI_NEG (in), E5 IRQ (out), E6 I2S_SDO (out), E7 I2S_SDI (in), F1 HP_VMID_FB (in), F2 LS_VDD (power), F3 CPI_POS (in), F4 CPO_NEG (out), F5 AUX_OUT_NEG (out), F6 I2S_WS (in), F7 I2S_CLK (in), G1 LS_NEG (out), G2 LS_VSS (power), G3 LS_POS (out), G4 CPO_POS (out), G5 AUX_OUT_POS (out), G6 D_VSS (power), G7 MCLK (in)

## LM49370RL/NOPB
designator U?
Boomer Audio Power Amplifier Series Audio Sub-System with an Ultra Low EMI, Spread Spectrum, Class D Loudspeaker Amplifier, a Dual-Mode Stereo Headphone Amplifier, and a Dedicated Interface for Bluetooth Transceivers, 49-pin Micro SMDXT, Pb-Free; PartNumber: LM49370RL/NOPB; Manufacturer: National Semiconductor; PackageTopMarking: XYTT*I GI3; PowerWise: Y; CompType: Audio IC; DatasheetVersion: Feb-2008; PackageVersion: revB, Dec-2005; PackageReference: RLA49UUA; PackageDescription: Micro SMDxt, 49 Bump (Large), 0.5mm Pitch; RoHS: Y; PinCount: 49; High-Reliability: Y; ComponentLink1Description: Manufacturer URL; ComponentLink1URL: http://www.national.com/; ComponentLink2Description: LM49370 Datasheet; ComponentLink2URL: http://www.national.com/ds/LM/LM49370.pdf; ComponentLink3Description: LM49370 Web Page; ComponentLink3URL: http://www.national.com/pf/LM/LM49370.html; ComponentLink4Description: RLA49UUA Package Page; ComponentLink4URL: http://www.national.com/packaging/folders/rla49uua.html
footprint RLA49UUA (Micro SMD, 49-Leads, Body 3.93x3.93mm, Pitch 0.5mm, NSC Recommended)
pins: A1 EP_NEG (out), A2 A_VDD (power), A3 INT_MIC_POS (in), A4 PCM_SDO (out), A5 PCM_CLK (in), A6 PCM_SYNC (io), A7 PCM_SDI (in), B1 A_VSS (power), B2 EP_POS (out), B3 INT_MIC_NEG (in), B4 BYPASS, B5 TEST_MODE/~{CS} (in), B6 PLL_FILT, B7 PLL_VDD (power), C1 HP_R (out), C2 EXT_BIAS (power), C3 INT_BIAS (power), C4 AUX_R (in), C5 GPIO_2 (io), C6 SDA (io), C7 SCL (in), D1 HP_L (out), D2 VREF_FLT, D3 EXT_MIC (in), D4 SPI_MODE (in), D5 GPIO_1 (io), D6 BB_VDD (power), D7 D_VDD (power), E1 HP_VMID (power), E2 MIC_DET (in), E3 AUX_L (in), E4 CPI_NEG (in), E5 IRQ (out), E6 I2S_SDO (out), E7 I2S_SDI (in), F1 HP_VMID_FB (in), F2 LS_VDD (power), F3 CPI_POS (in), F4 CPO_NEG (out), F5 AUX_OUT_NEG (out), F6 I2S_WS (in), F7 I2S_CLK (in), G1 LS_NEG (out), G2 LS_VSS (power), G3 LS_POS (out), G4 CPO_POS (out), G5 AUX_OUT_POS (out), G6 D_VSS (power), G7 MCLK (in)

## LM49370RLX/NOPB
designator U?
Boomer Audio Power Amplifier Series Audio Sub-System with an Ultra Low EMI, Spread Spectrum, Class D Loudspeaker Amplifier, a Dual-Mode Stereo Headphone Amplifier, and a Dedicated Interface for Bluetooth Transceivers, 49-pin Micro SMDXT, Pb-Free; PartNumber: LM49370RLX/NOPB; Manufacturer: National Semiconductor; PackageTopMarking: XYTT*I GI3; PowerWise: Y; CompType: Audio IC; DatasheetVersion: Feb-2008; PackageVersion: revB, Dec-2005; PackageReference: RLA49UUA; PackageDescription: Micro SMDxt, 49 Bump (Large), 0.5mm Pitch; RoHS: Y; PinCount: 49; High-Reliability: Y; ComponentLink1Description: Manufacturer URL; ComponentLink1URL: http://www.national.com/; ComponentLink2Description: LM49370 Datasheet; ComponentLink2URL: http://www.national.com/ds/LM/LM49370.pdf; ComponentLink3Description: LM49370 Web Page; ComponentLink3URL: http://www.national.com/pf/LM/LM49370.html; ComponentLink4Description: RLA49UUA Package Page; ComponentLink4URL: http://www.national.com/packaging/folders/rla49uua.html
footprint RLA49UUA (Micro SMD, 49-Leads, Body 3.93x3.93mm, Pitch 0.5mm, NSC Recommended)
pins: A1 EP_NEG (out), A2 A_VDD (power), A3 INT_MIC_POS (in), A4 PCM_SDO (out), A5 PCM_CLK (in), A6 PCM_SYNC (io), A7 PCM_SDI (in), B1 A_VSS (power), B2 EP_POS (out), B3 INT_MIC_NEG (in), B4 BYPASS, B5 TEST_MODE/~{CS} (in), B6 PLL_FILT, B7 PLL_VDD (power), C1 HP_R (out), C2 EXT_BIAS (power), C3 INT_BIAS (power), C4 AUX_R (in), C5 GPIO_2 (io), C6 SDA (io), C7 SCL (in), D1 HP_L (out), D2 VREF_FLT, D3 EXT_MIC (in), D4 SPI_MODE (in), D5 GPIO_1 (io), D6 BB_VDD (power), D7 D_VDD (power), E1 HP_VMID (power), E2 MIC_DET (in), E3 AUX_L (in), E4 CPI_NEG (in), E5 IRQ (out), E6 I2S_SDO (out), E7 I2S_SDI (in), F1 HP_VMID_FB (in), F2 LS_VDD (power), F3 CPI_POS (in), F4 CPO_NEG (out), F5 AUX_OUT_NEG (out), F6 I2S_WS (in), F7 I2S_CLK (in), G1 LS_NEG (out), G2 LS_VSS (power), G3 LS_POS (out), G4 CPO_POS (out), G5 AUX_OUT_POS (out), G6 D_VSS (power), G7 MCLK (in)

## LM49450SQ
designator U?
I2S Input, 2.5W/Channel, Low EMI, Stereo, Class D Audio Sub-System with Ground Referenced Headphone Amplifier, 3D Enhancement, and Headphone Sense, 33-pin LLP; PartNumber: LM49450SQ; Manufacturer: National Semiconductor; PackageTopMarking: NS*UZXYTT*L49450; PowerWise: N; CompType: Audio IC; High-Reliability: Y; DatasheetVersion: Sep-2008; PackageVersion: revB, Oct-2009; PackageReference: SQA32A; PackageDescription: LLP, Quad, 5 x 5 x 0.8mm, 32 Lead, 0.5mm Pitch, No Pullback 3.1 x 3.1 Exposed Pad; RoHS: Y; PinCount: 32; ComponentLink1Description: Manufacturer URL; ComponentLink1URL: http://www.national.com/; ComponentLink2Description: LM49450 Datasheet; ComponentLink2URL: http://www.national.com/ds/LM/LM49450.pdf; ComponentLink3Description: LM49450 Web Page; ComponentLink3URL: http://www.national.com/pf/LM/LM49450.html; ComponentLink4Description: SQA32A Package Page; ComponentLink4URL: http://www.national.com/packaging/folders/sqa32a.html
footprint SQA32A (QFN, 32-Leads, Body 5x5mm, Pitch 0.5mm, Thermal Pad 3.2x3.2mm, NSC Recommended)
pins: 1 C1P, 2 CPGND (power), 3 SDA (in), 4 DGND (power), 5 I2S_WS (in), 6 I2S_SDI (in), 7 I2S_CLK (in), 8 MCLK (in), 9 SCL (in), 10 DVDD (power), 11 IOVDD (power), 12 GND (power), 13 REF, 14 INR (in), 15 INL (in), 16 VDD (power), 17 BYPASS, 18 LSVDD (power), 19 LLS+ (out), 20 LLS- (out), 21 LSGND (power), 22 RLS- (out), 23 RLS+ (out), 24 LSVDD (power), 25 HPGND (power), 26 HPS (in), 27 HPR (out), 28 HPVDD (power), 29 HPL (out), 30 HPVSS (power), 31 C1N, 32 CPVDD (power), 33 DAP (power)

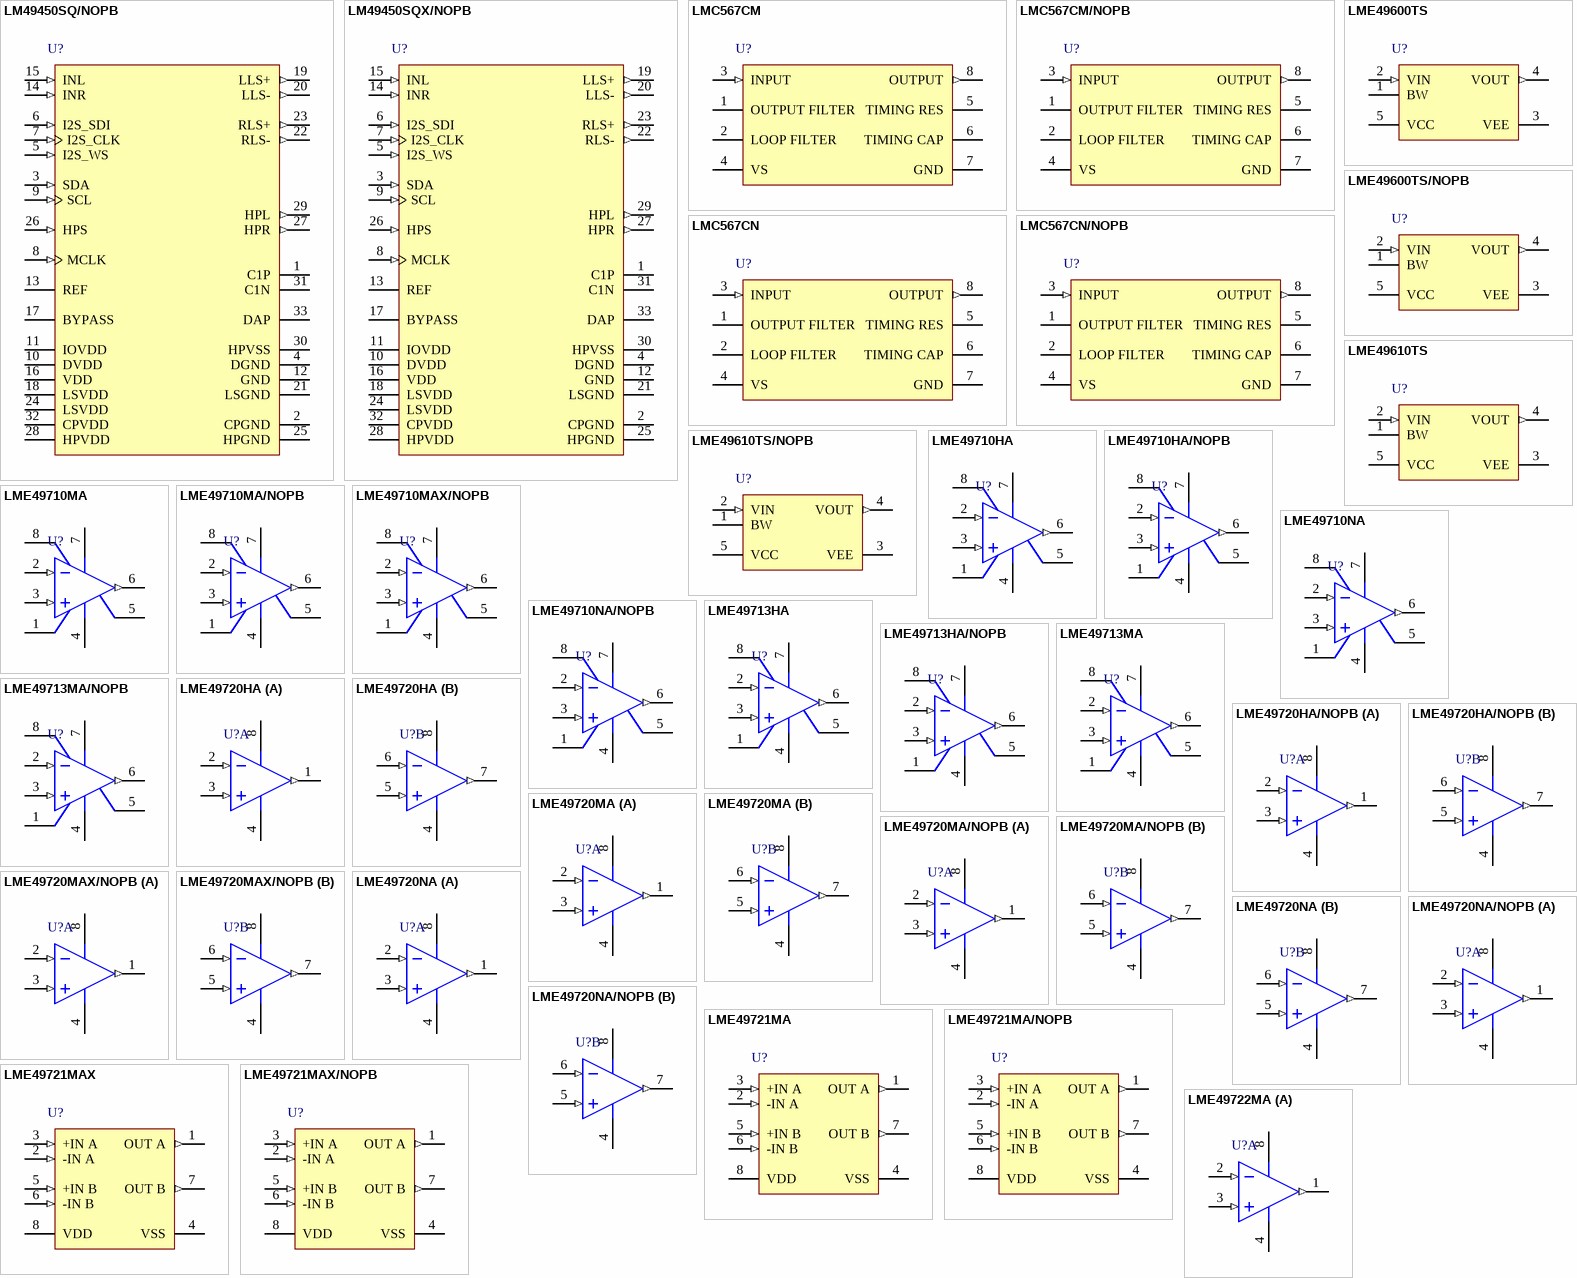
[diagram p23: symbols LM49450SQ/NOPB to LME49722MA]

## LM49450SQ/NOPB
designator U?
I2S Input, 2.5W/Channel, Low EMI, Stereo, Class D Audio Sub-System with Ground Referenced Headphone Amplifier, 3D Enhancement, and Headphone Sense, 32-pin LLP, Pb-Free; PartNumber: LM49450SQ/NOPB; Manufacturer: National Semiconductor; PackageTopMarking: NS*UZXYTT*L49450; PowerWise: N; CompType: Audio IC; High-Reliability: Y; DatasheetVersion: Sep-2008; PackageVersion: revB, Oct-2009; PackageReference: SQA32A; PackageDescription: LLP, Quad, 5 x 5 x 0.8mm, 32 Lead, 0.5mm Pitch, No Pullback 3.1 x 3.1 Exposed Pad; RoHS: Y; PinCount: 32; ComponentLink1Description: Manufacturer URL; ComponentLink1URL: http://www.national.com/; ComponentLink2Description: LM49450 Datasheet; ComponentLink2URL: http://www.national.com/ds/LM/LM49450.pdf; ComponentLink3Description: LM49450 Web Page; ComponentLink3URL: http://www.national.com/pf/LM/LM49450.html; ComponentLink4Description: SQA32A Package Page; ComponentLink4URL: http://www.national.com/packaging/folders/sqa32a.html
footprint SQA32A (QFN, 32-Leads, Body 5x5mm, Pitch 0.5mm, Thermal Pad 3.2x3.2mm, NSC Recommended)
pins: 1 C1P, 2 CPGND (power), 3 SDA (in), 4 DGND (power), 5 I2S_WS (in), 6 I2S_SDI (in), 7 I2S_CLK (in), 8 MCLK (in), 9 SCL (in), 10 DVDD (power), 11 IOVDD (power), 12 GND (power), 13 REF, 14 INR (in), 15 INL (in), 16 VDD (power), 17 BYPASS, 18 LSVDD (power), 19 LLS+ (out), 20 LLS- (out), 21 LSGND (power), 22 RLS- (out), 23 RLS+ (out), 24 LSVDD (power), 25 HPGND (power), 26 HPS (in), 27 HPR (out), 28 HPVDD (power), 29 HPL (out), 30 HPVSS (power), 31 C1N, 32 CPVDD (power), 33 DAP (power)

## LM49450SQX/NOPB
designator U?
I2S Input, 2.5W/Channel, Low EMI, Stereo, Class D Audio Sub-System with Ground Referenced Headphone Amplifier, 3D Enhancement, and Headphone Sense, 32-pin LLP, Pb-Free; PartNumber: LM49450SQX/NOPB; Manufacturer: National Semiconductor; PackageTopMarking: NS*UZXYTT*L49450; PowerWise: N; CompType: Audio IC; High-Reliability: Y; DatasheetVersion: Sep-2008; PackageVersion: revB, Oct-2009; PackageReference: SQA32A; PackageDescription: LLP, Quad, 5 x 5 x 0.8mm, 32 Lead, 0.5mm Pitch, No Pullback 3.1 x 3.1 Exposed Pad; RoHS: Y; PinCount: 32; ComponentLink1Description: Manufacturer URL; ComponentLink1URL: http://www.national.com/; ComponentLink2Description: LM49450 Datasheet; ComponentLink2URL: http://www.national.com/ds/LM/LM49450.pdf; ComponentLink3Description: LM49450 Web Page; ComponentLink3URL: http://www.national.com/pf/LM/LM49450.html; ComponentLink4Description: SQA32A Package Page; ComponentLink4URL: http://www.national.com/packaging/folders/sqa32a.html
footprint SQA32A (QFN, 32-Leads, Body 5x5mm, Pitch 0.5mm, Thermal Pad 3.2x3.2mm, NSC Recommended)
pins: 1 C1P, 2 CPGND (power), 3 SDA (in), 4 DGND (power), 5 I2S_WS (in), 6 I2S_SDI (in), 7 I2S_CLK (in), 8 MCLK (in), 9 SCL (in), 10 DVDD (power), 11 IOVDD (power), 12 GND (power), 13 REF, 14 INR (in), 15 INL (in), 16 VDD (power), 17 BYPASS, 18 LSVDD (power), 19 LLS+ (out), 20 LLS- (out), 21 LSGND (power), 22 RLS- (out), 23 RLS+ (out), 24 LSVDD (power), 25 HPGND (power), 26 HPS (in), 27 HPR (out), 28 HPVDD (power), 29 HPL (out), 30 HPVSS (power), 31 C1N, 32 CPVDD (power), 33 DAP (power)

## LMC567CM
designator U?
Low Power Tone Decoder, 8-pin Narrow SOIC; PartNumber: LMC567CM; Manufacturer: National Semiconductor; PackageTopMarking: NSZXTT*LMC*567CM; PowerWise: N; CompType: Audio IC; High-Reliability: Y; DatasheetVersion: Jul-1999; PackageVersion: revM, May-2009; PackageReference: M08A; PackageDescription: SOIC Narrow, 4.9 x 3.9 x 1.45mm, 8 Lead, 1.27mm Pitch; RoHS: N; PinCount: 8; Code_JEDEC: MS-012-AA; Code_IPC: SOIC127P600-8; ComponentLink1Description: Manufacturer URL; ComponentLink1URL: http://www.national.com/; ComponentLink2Description: LMC567 Datasheet; ComponentLink2URL: http://www.national.com/ds/LM/LMC567.pdf; ComponentLink3Description: LMC567 Web Page; ComponentLink3URL: http://www.national.com/pf/LM/LMC567.html; ComponentLink4Description: M08A Package Page; ComponentLink4URL: http://www.national.com/packaging/folders/m08a.html
footprint M08A_N (SOIC, 8-Leads, Body 4.9x3.9mm, Pitch 1.27mm, IPC Medium Density)
footprint M08A_L (SOIC, 8-Leads, Body 4.9x3.9mm, Pitch 1.27mm, IPC High Density)
footprint M08A_M (SOIC, 8-Leads, Body 4.9x3.9mm, Pitch 1.27mm, IPC Low Density)
pins: 1 OUTPUT FILTER, 2 LOOP FILTER, 3 INPUT (in), 4 VS (power), 5 TIMING RES, 6 TIMING CAP, 7 GND (power), 8 OUTPUT (out)

## LMC567CM/NOPB
designator U?
Low Power Tone Decoder, 8-pin Narrow SOIC, Pb-Free; PartNumber: LMC567CM/NOPB; Manufacturer: National Semiconductor; PackageTopMarking: NSZXTT*LMC*567CM; PowerWise: N; CompType: Audio IC; High-Reliability: Y; DatasheetVersion: Jul-1999; PackageVersion: revM, May-2009; PackageReference: M08A; PackageDescription: SOIC Narrow, 4.9 x 3.9 x 1.45mm, 8 Lead, 1.27mm Pitch; RoHS: Y; PinCount: 8; Code_JEDEC: MS-012-AA; Code_IPC: SOIC127P600-8; ComponentLink1Description: Manufacturer URL; ComponentLink1URL: http://www.national.com/; ComponentLink2Description: LMC567 Datasheet; ComponentLink2URL: http://www.national.com/ds/LM/LMC567.pdf; ComponentLink3Description: LMC567 Web Page; ComponentLink3URL: http://www.national.com/pf/LM/LMC567.html; ComponentLink4Description: M08A Package Page; ComponentLink4URL: http://www.national.com/packaging/folders/m08a.html
footprint M08A_N (SOIC, 8-Leads, Body 4.9x3.9mm, Pitch 1.27mm, IPC Medium Density)
footprint M08A_L (SOIC, 8-Leads, Body 4.9x3.9mm, Pitch 1.27mm, IPC High Density)
footprint M08A_M (SOIC, 8-Leads, Body 4.9x3.9mm, Pitch 1.27mm, IPC Low Density)
pins: 1 OUTPUT FILTER, 2 LOOP FILTER, 3 INPUT (in), 4 VS (power), 5 TIMING RES, 6 TIMING CAP, 7 GND (power), 8 OUTPUT (out)

## LMC567CN
designator U?
Low Power Tone Decoder, 8-pin MDIP; PartNumber: LMC567CN; Manufacturer: National Semiconductor; PackageTopMarking: NSUZXYTTE#*LMC*567CN; PowerWise: N; CompType: Audio IC; High-Reliability: Y; DatasheetVersion: Jul-1999; PackageVersion: revG, May-2006; PackageReference: N08E; PackageDescription: MDIP, .365 x .250 x .130in, 8 Lead, .100in Pitch; RoHS: N; PinCount: 8; Code_JEDEC: MS-001-BA; ComponentLink1Description: Manufacturer URL; ComponentLink1URL: http://www.national.com/; ComponentLink2Description: LMC567 Datasheet; ComponentLink2URL: http://www.national.com/ds/LM/LMC567.pdf; ComponentLink3Description: LMC567 Web Page; ComponentLink3URL: http://www.national.com/pf/LM/LMC567.html; ComponentLink4Description: N08E Package Page; ComponentLink4URL: http://www.national.com/packaging/folders/n08e.html
footprint N08E (DIP, 8-Leads, Row Spacing 7.62mm, Pitch 2.54mm, Body 9.91x6.35mm)
pins: 1 OUTPUT FILTER, 2 LOOP FILTER, 3 INPUT (in), 4 VS (power), 5 TIMING RES, 6 TIMING CAP, 7 GND (power), 8 OUTPUT (out)

## LMC567CN/NOPB
designator U?
Low Power Tone Decoder, 8-pin MDIP, Pb-Free; PartNumber: LMC567CN/NOPB; Manufacturer: National Semiconductor; PackageTopMarking: NSUZXYTTE#*LMC*567CN; PowerWise: N; CompType: Audio IC; High-Reliability: Y; DatasheetVersion: Jul-1999; PackageVersion: revG, May-2006; PackageReference: N08E; PackageDescription: MDIP, .365 x .250 x .130in, 8 Lead, .100in Pitch; RoHS: Y; PinCount: 8; Code_JEDEC: MS-001-BA; ComponentLink1Description: Manufacturer URL; ComponentLink1URL: http://www.national.com/; ComponentLink2Description: LMC567 Datasheet; ComponentLink2URL: http://www.national.com/ds/LM/LMC567.pdf; ComponentLink3Description: LMC567 Web Page; ComponentLink3URL: http://www.national.com/pf/LM/LMC567.html; ComponentLink4Description: N08E Package Page; ComponentLink4URL: http://www.national.com/packaging/folders/n08e.html
footprint N08E (DIP, 8-Leads, Row Spacing 7.62mm, Pitch 2.54mm, Body 9.91x6.35mm)
pins: 1 OUTPUT FILTER, 2 LOOP FILTER, 3 INPUT (in), 4 VS (power), 5 TIMING RES, 6 TIMING CAP, 7 GND (power), 8 OUTPUT (out)

## LME49600TS
designator U?
High Performance, High Fidelity, High Current Audio Buffer, 5-pin TO-263; PartNumber: LME49600TS; Manufacturer: National Semiconductor; PackageTopMarking: NSUZXYTTE#*LME49600*TS; PowerWise: N; CompType: Audio IC; High-Reliability: Y; DatasheetVersion: Mar-2008; PackageVersion: revD, Apr-2005; PackageReference: TS5B; PackageDescription: TO-263, Molded, .400 x .390 x .180in, 5 Lead, .067in Pitch, Surface Mount; RoHS: Y; PinCount: 5; Code_JEDEC: MO-169-AB; ComponentLink1Description: Manufacturer URL; ComponentLink1URL: http://www.national.com/; ComponentLink2Description: LME49600 Datasheet; ComponentLink2URL: http://www.national.com/ds/LM/LME49600.pdf; ComponentLink3Description: LME49600 Web Page; ComponentLink3URL: http://www.national.com/pf/LM/LME49600.html; ComponentLink4Description: TS5B Package Page; ComponentLink4URL: http://www.national.com/packaging/folders/ts5b.html
footprint TS5B_N (D2-PAK, 6-Leads, Body 8.6x10.2mm, Pitch 1.7mm, Lead Span 14.1mm, IPC Medium Density)
footprint TS5B_L (D2-PAK, 6-Leads, Body 8.6x10.2mm, Pitch 1.7mm, Lead Span 14.1mm, IPC High Density)
footprint TS5B_M (D2-PAK, 6-Leads, Body 8.6x10.2mm, Pitch 1.7mm, Lead Span 14.1mm, IPC Low Density)
pins: 1 BW, 2 VIN (in), 3 VEE (power), 4 VOUT (out), 5 VCC (power)

## LME49600TS/NOPB
designator U?
High Performance, High Fidelity, High Current Audio Buffer, 5-pin TO-263, Pb-Free; PartNumber: LME49600TS/NOPB; Manufacturer: National Semiconductor; PackageTopMarking: NSUZXYTTE#*LME49600*TS; PowerWise: N; CompType: Audio IC; High-Reliability: Y; DatasheetVersion: Mar-2008; PackageVersion: revD, Apr-2005; PackageReference: TS5B; PackageDescription: TO-263, Molded, .400 x .390 x .180in, 5 Lead, .067in Pitch, Surface Mount; RoHS: Y; PinCount: 5; Code_JEDEC: MO-169-AB; ComponentLink1Description: Manufacturer URL; ComponentLink1URL: http://www.national.com/; ComponentLink2Description: LME49600 Datasheet; ComponentLink2URL: http://www.national.com/ds/LM/LME49600.pdf; ComponentLink3Description: LME49600 Web Page; ComponentLink3URL: http://www.national.com/pf/LM/LME49600.html; ComponentLink4Description: TS5B Package Page; ComponentLink4URL: http://www.national.com/packaging/folders/ts5b.html
footprint TS5B_N (D2-PAK, 6-Leads, Body 8.6x10.2mm, Pitch 1.7mm, Lead Span 14.1mm, IPC Medium Density)
footprint TS5B_L (D2-PAK, 6-Leads, Body 8.6x10.2mm, Pitch 1.7mm, Lead Span 14.1mm, IPC High Density)
footprint TS5B_M (D2-PAK, 6-Leads, Body 8.6x10.2mm, Pitch 1.7mm, Lead Span 14.1mm, IPC Low Density)
pins: 1 BW, 2 VIN (in), 3 VEE (power), 4 VOUT (out), 5 VCC (power)

## LME49610TS
designator U?
High Performance, High Fidelity, High Current Audio Buffer, 5-pin TO-263; PartNumber: LME49610TS; Manufacturer: National Semiconductor; PackageTopMarking: NSUZXYTTE#*LME49610*TS; PowerWise: N; CompType: Audio IC; High-Reliability: Y; DatasheetVersion: Oct-2009; PackageVersion: revD, Apr-2005; PackageReference: TS5B; PackageDescription: TO-263, Molded, .400 x .390 x .180in, 5 Lead, .067in Pitch, Surface Mount; RoHS: Y; PinCount: 5; Code_JEDEC: MO-169-AB; ComponentLink1Description: Manufacturer URL; ComponentLink1URL: http://www.national.com/; ComponentLink2Description: LME49610 Datasheet; ComponentLink2URL: http://www.national.com/ds/LM/LME49610.pdf; ComponentLink3Description: LME49610 Web Page; ComponentLink3URL: http://www.national.com/pf/LM/LME49610.html; ComponentLink4Description: TS5B Package Page; ComponentLink4URL: http://www.national.com/packaging/folders/ts5b.html
footprint TS5B_N (D2-PAK, 6-Leads, Body 8.6x10.2mm, Pitch 1.7mm, Lead Span 14.1mm, IPC Medium Density)
footprint TS5B_L (D2-PAK, 6-Leads, Body 8.6x10.2mm, Pitch 1.7mm, Lead Span 14.1mm, IPC High Density)
footprint TS5B_M (D2-PAK, 6-Leads, Body 8.6x10.2mm, Pitch 1.7mm, Lead Span 14.1mm, IPC Low Density)
pins: 1 BW, 2 VIN (in), 3 VEE (power), 4 VOUT (out), 5 VCC (power)

## LME49610TS/NOPB
designator U?
High Performance, High Fidelity, High Current Audio Buffer, 5-pin TO-263, Pb-Free; PartNumber: LME49610TS/NOPB; Manufacturer: National Semiconductor; PackageTopMarking: NSUZXYTTE#*LME49610*TS; PowerWise: N; CompType: Audio IC; High-Reliability: Y; DatasheetVersion: Oct-2009; PackageVersion: revD, Apr-2005; PackageReference: TS5B; PackageDescription: TO-263, Molded, .400 x .390 x .180in, 5 Lead, .067in Pitch, Surface Mount; RoHS: Y; PinCount: 5; Code_JEDEC: MO-169-AB; ComponentLink1Description: Manufacturer URL; ComponentLink1URL: http://www.national.com/; ComponentLink2Description: LME49610 Datasheet; ComponentLink2URL: http://www.national.com/ds/LM/LME49610.pdf; ComponentLink3Description: LME49610 Web Page; ComponentLink3URL: http://www.national.com/pf/LM/LME49610.html; ComponentLink4Description: TS5B Package Page; ComponentLink4URL: http://www.national.com/packaging/folders/ts5b.html
footprint TS5B_N (D2-PAK, 6-Leads, Body 8.6x10.2mm, Pitch 1.7mm, Lead Span 14.1mm, IPC Medium Density)
footprint TS5B_L (D2-PAK, 6-Leads, Body 8.6x10.2mm, Pitch 1.7mm, Lead Span 14.1mm, IPC High Density)
footprint TS5B_M (D2-PAK, 6-Leads, Body 8.6x10.2mm, Pitch 1.7mm, Lead Span 14.1mm, IPC Low Density)
pins: 1 BW, 2 VIN (in), 3 VEE (power), 4 VOUT (out), 5 VCC (power)

## LME49710HA
designator U?
High Performance, High Fidelity Audio Operational Amplifier, 8-pin TO-99; PartNumber: LME49710HA; Manufacturer: National Semiconductor; PackageTopMarking: NSZXYTTE#*LME*49710HA; PowerWise: Y; CompType: Audio IC; DatasheetVersion: Mar-2007; PackageVersion: revF, Jun-1995; PackageReference: H08C; PackageDescription: Metal Can, TO-99, 8 Lead, .200 Dia., P.C.; RoHS: Y; PinCount: 8; High-Reliability: Y; Code_JEDEC: TO-99; ComponentLink1Description: Manufacturer URL; ComponentLink1URL: http://www.national.com/; ComponentLink2Description: LME49710 Datasheet; ComponentLink2URL: http://www.national.com/ds/LM/LME49710.pdf; ComponentLink3Description: LME49710 Web Page; ComponentLink3URL: http://www.national.com/pf/LM/LME49710.html; ComponentLink4Description: H08C Package Page; ComponentLink4URL: http://www.national.com/packaging/folders/h08c.html
footprint H08C (Can; 8 Leads; Pin Circle Dia. 5.08 mm; Lead Dia. 0.48 mm (max))
pins: 1 NC, 2 -IN (in), 3 +IN (in), 4 V- (power), 5 NC, 6 OUTPUT (out), 7 V+ (power), 8 NC

## LME49710HA/NOPB
designator U?
High Performance, High Fidelity Audio Operational Amplifier, 8-pin TO-99, Pb-Free; PartNumber: LME49710HA/NOPB; Manufacturer: National Semiconductor; PackageTopMarking: NSZXYTTE#*LME*49710HA; PowerWise: Y; CompType: Audio IC; DatasheetVersion: Mar-2007; PackageVersion: revF, Jun-1995; PackageReference: H08C; PackageDescription: Metal Can, TO-99, 8 Lead, .200 Dia., P.C.; RoHS: Y; PinCount: 8; High-Reliability: Y; Code_JEDEC: TO-99; ComponentLink1Description: Manufacturer URL; ComponentLink1URL: http://www.national.com/; ComponentLink2Description: LME49710 Datasheet; ComponentLink2URL: http://www.national.com/ds/LM/LME49710.pdf; ComponentLink3Description: LME49710 Web Page; ComponentLink3URL: http://www.national.com/pf/LM/LME49710.html; ComponentLink4Description: H08C Package Page; ComponentLink4URL: http://www.national.com/packaging/folders/h08c.html
footprint H08C (Can; 8 Leads; Pin Circle Dia. 5.08 mm; Lead Dia. 0.48 mm (max))
pins: 1 NC, 2 -IN (in), 3 +IN (in), 4 V- (power), 5 NC, 6 OUTPUT (out), 7 V+ (power), 8 NC

## LME49710MA
designator U?
High Performance, High Fidelity Audio Operational Amplifier, 8-pin Narrow SOIC; PartNumber: LME49710MA; Manufacturer: National Semiconductor; PackageTopMarking: NSZXTT*L49710*MA; PowerWise: Y; CompType: Audio IC; DatasheetVersion: Mar-2007; PackageVersion: revM, May-2009; PackageReference: M08A; PackageDescription: SOIC Narrow, 4.9 x 3.9 x 1.45mm, 8 Lead, 1.27mm Pitch; RoHS: Y; PinCount: 8; High-Reliability: Y; Code_JEDEC: MS-012-AA; Code_IPC: SOIC127P600-8; ComponentLink1Description: Manufacturer URL; ComponentLink1URL: http://www.national.com/; ComponentLink2Description: LME49710 Datasheet; ComponentLink2URL: http://www.national.com/ds/LM/LME49710.pdf; ComponentLink3Description: LME49710 Web Page; ComponentLink3URL: http://www.national.com/pf/LM/LME49710.html; ComponentLink4Description: M08A Package Page; ComponentLink4URL: http://www.national.com/packaging/folders/m08a.html
footprint M08A_N (SOIC, 8-Leads, Body 4.9x3.9mm, Pitch 1.27mm, IPC Medium Density)
footprint M08A_L (SOIC, 8-Leads, Body 4.9x3.9mm, Pitch 1.27mm, IPC High Density)
footprint M08A_M (SOIC, 8-Leads, Body 4.9x3.9mm, Pitch 1.27mm, IPC Low Density)
pins: 1 NC, 2 -IN (in), 3 +IN (in), 4 V- (power), 5 NC, 6 OUTPUT (out), 7 V+ (power), 8 NC

## LME49710MA/NOPB
designator U?
High Performance, High Fidelity Audio Operational Amplifier, 8-pin Narrow SOIC, Pb-Free; PartNumber: LME49710MA/NOPB; Manufacturer: National Semiconductor; PackageTopMarking: NSZXTT*L49710*MA; PowerWise: Y; CompType: Audio IC; DatasheetVersion: Mar-2007; PackageVersion: revM, May-2009; PackageReference: M08A; PackageDescription: SOIC Narrow, 4.9 x 3.9 x 1.45mm, 8 Lead, 1.27mm Pitch; RoHS: Y; PinCount: 8; High-Reliability: Y; Code_JEDEC: MS-012-AA; Code_IPC: SOIC127P600-8; ComponentLink1Description: Manufacturer URL; ComponentLink1URL: http://www.national.com/; ComponentLink2Description: LME49710 Datasheet; ComponentLink2URL: http://www.national.com/ds/LM/LME49710.pdf; ComponentLink3Description: LME49710 Web Page; ComponentLink3URL: http://www.national.com/pf/LM/LME49710.html; ComponentLink4Description: M08A Package Page; ComponentLink4URL: http://www.national.com/packaging/folders/m08a.html
footprint M08A_N (SOIC, 8-Leads, Body 4.9x3.9mm, Pitch 1.27mm, IPC Medium Density)
footprint M08A_L (SOIC, 8-Leads, Body 4.9x3.9mm, Pitch 1.27mm, IPC High Density)
footprint M08A_M (SOIC, 8-Leads, Body 4.9x3.9mm, Pitch 1.27mm, IPC Low Density)
pins: 1 NC, 2 -IN (in), 3 +IN (in), 4 V- (power), 5 NC, 6 OUTPUT (out), 7 V+ (power), 8 NC

## LME49710MAX/NOPB
designator U?
High Performance, High Fidelity Audio Operational Amplifier, 8-pin Narrow SOIC, Pb-Free; PartNumber: LME49710MAX/NOPB; Manufacturer: National Semiconductor; PackageTopMarking: NSZXTT*L49710*MA; PowerWise: Y; CompType: Audio IC; DatasheetVersion: Mar-2007; PackageVersion: revM, May-2009; PackageReference: M08A; PackageDescription: SOIC Narrow, 4.9 x 3.9 x 1.45mm, 8 Lead, 1.27mm Pitch; RoHS: Y; PinCount: 8; High-Reliability: Y; Code_JEDEC: MS-012-AA; Code_IPC: SOIC127P600-8; ComponentLink1Description: Manufacturer URL; ComponentLink1URL: http://www.national.com/; ComponentLink2Description: LME49710 Datasheet; ComponentLink2URL: http://www.national.com/ds/LM/LME49710.pdf; ComponentLink3Description: LME49710 Web Page; ComponentLink3URL: http://www.national.com/pf/LM/LME49710.html; ComponentLink4Description: M08A Package Page; ComponentLink4URL: http://www.national.com/packaging/folders/m08a.html
footprint M08A_N (SOIC, 8-Leads, Body 4.9x3.9mm, Pitch 1.27mm, IPC Medium Density)
footprint M08A_L (SOIC, 8-Leads, Body 4.9x3.9mm, Pitch 1.27mm, IPC High Density)
footprint M08A_M (SOIC, 8-Leads, Body 4.9x3.9mm, Pitch 1.27mm, IPC Low Density)
pins: 1 NC, 2 -IN (in), 3 +IN (in), 4 V- (power), 5 NC, 6 OUTPUT (out), 7 V+ (power), 8 NC